# Altium schematic symbol library ST_GNSS_Receivers.SchLib: 1 symbol
Pins are listed as number, name and electrical type; pins without a type are passive.

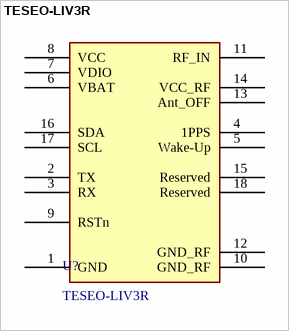
[diagram p0: symbol TESEO-LIV3R]

## TESEO-LIV3R
designator U?
series RF Receiver BeiDou, GLONASS, GNSS, GPS 1.561GHz, 1.575MHz -163dBm - - 18-LCC (9.7x10.1); Supplier 1: Digi-Key; Supplier Part Number 1: 497-19468-1-ND
pins: 1 GND, 2 TX, 3 RX, 4 1PPS, 5 Wake-Up, 6 VBAT, 7 VDIO, 8 VCC, 9 RSTn, 10 GND_RF, 11 RF_IN, 12 GND_RF, 13 Ant_OFF, 14 VCC_RF, 15 Reserved, 16 SDA, 17 SCL, 18 Reserved